# Altium integrated library Microchip Power Management Line Regulator.IntLib: 1174 symbols (part 28 of 31)
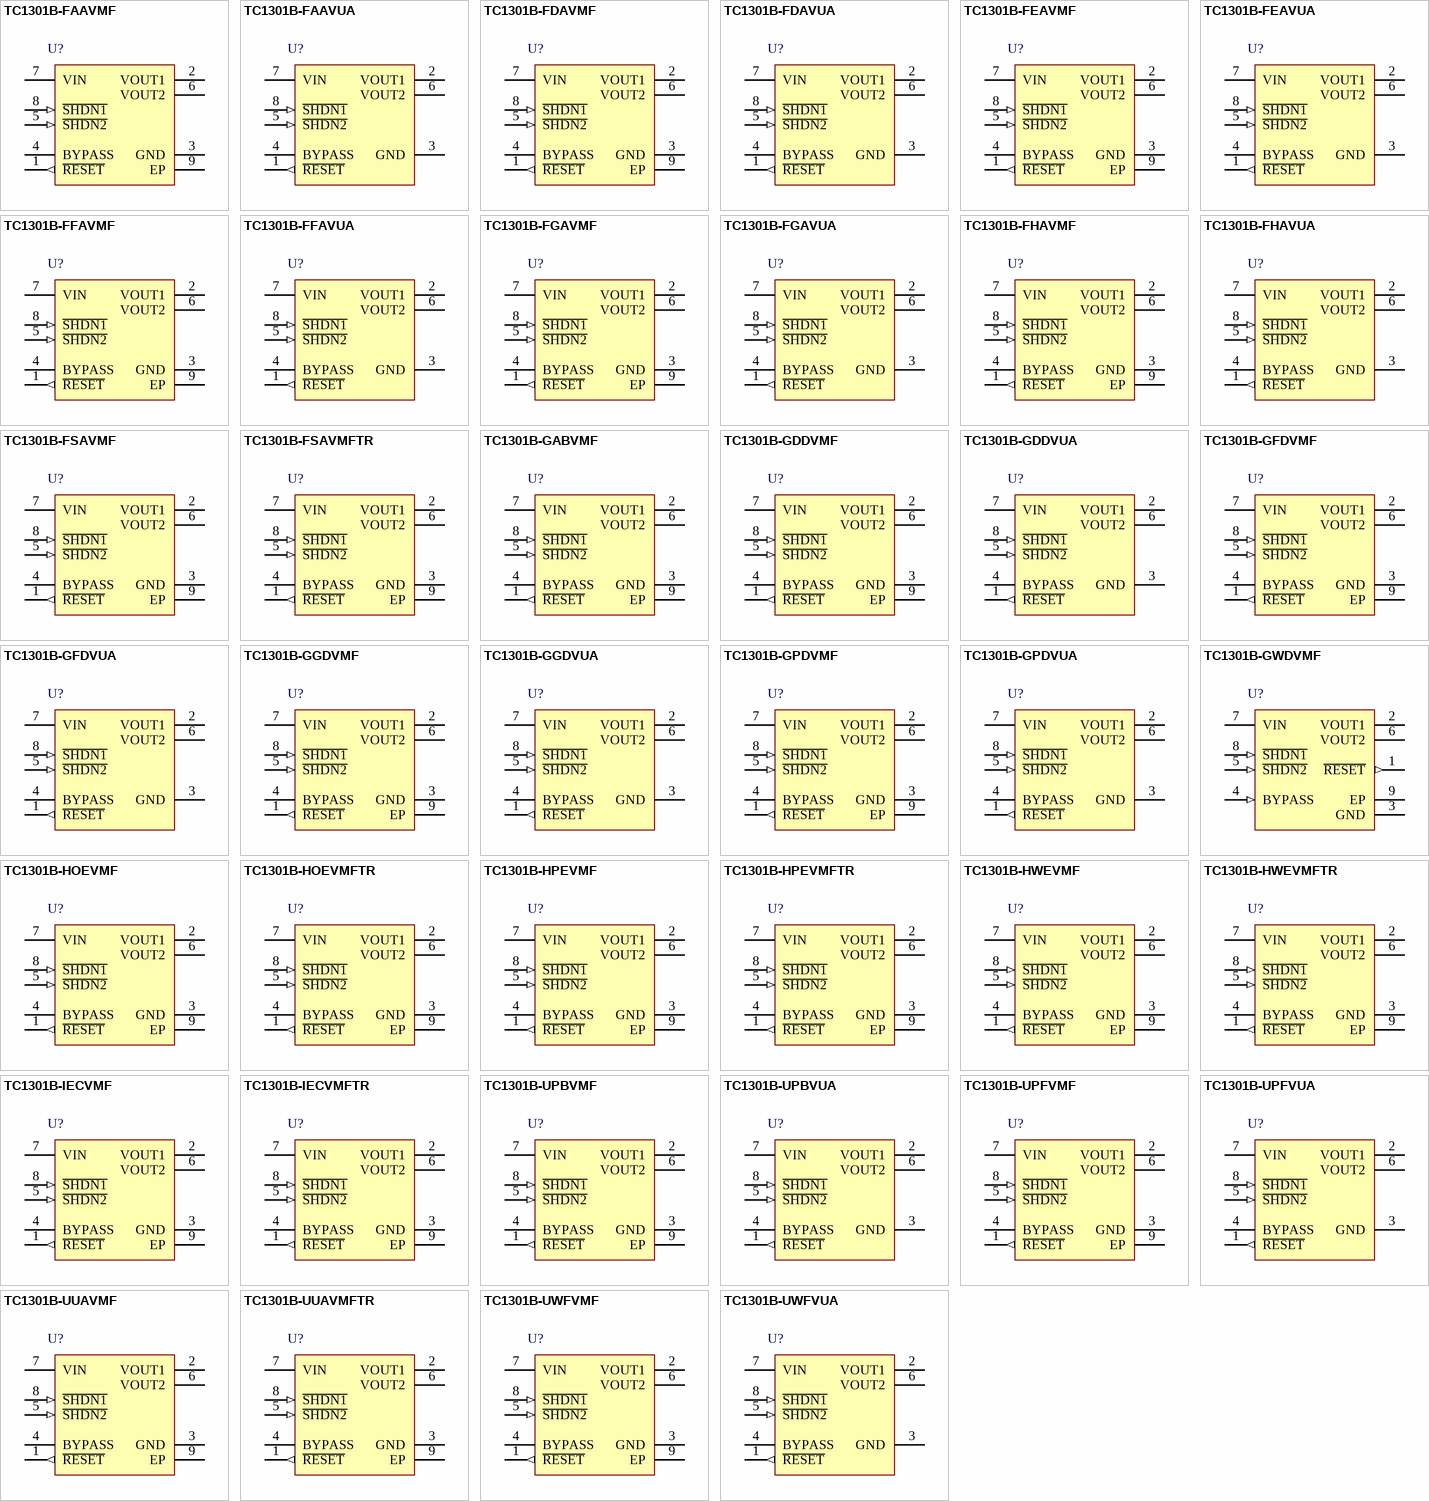
[diagram p57: symbols TC1301B-FAAVMF to TC1301B-UWFVUA]

## TC1301B-FDAVUA
designator U?
Dual LDO with Microcontroller Active-Low Reset Function, 8-Pin MSOP, Extended Temperature; Manufacturer: Microchip; PartNumber: TC1301B-FDAVUA; DatasheetVersion: revC, Feb-2008; PackageVersion: revBB, Aug-2009; PackageReference: MSOP-UA8; PackageDescription: 8-Lead Plastic Micro Small Outline Package (UA) [MSOP]; Supplier 1: Digi-Key; Supplier Part Number 1: TC1301B-FDAVUA-ND; Supplier 2: Mouser; Supplier Part Number 2: 579-TC1301B-FDAVUA; Mounting Technology: Surface Mount; Code_JEDEC: MO-187-AA; ComponentLink1Description: Manufacturer URL; ComponentLink1URL: http://www.microchip.com/; ComponentLink2Description: Datasheet; ComponentLink2URL: http://ww1.microchip.com/downloads/en/DeviceDoc/21798c.pdf; ComponentLink3Description: Package Specification; ComponentLink3URL: http://www.microchip.com/stellent/groups/techpub_sg/documents/packagingspec/en012702.pdf
footprint MSOP-UA8_N (TSOP, 8-Leads, Body 3x3mm, Pitch 0.65mm, IPC Medium Density)
footprint MSOP-UA8_L (TSOP, 8-Leads, Body 3x3mm, Pitch 0.65mm, IPC High Density)
footprint MSOP-UA8_M (TSOP, 8-Leads, Body 3x3mm, Pitch 0.65mm, IPC Low Density)
pins: 1 ~{RESET} (out), 2 VOUT1 (power), 3 GND (power), 4 BYPASS, 5 ~{SHDN2} (in), 6 VOUT2 (power), 7 VIN (power), 8 ~{SHDN1} (in)

## TC1301B-FEAVMF
designator U?
Dual LDO with Microcontroller Active-Low Reset Function, 8-Pin DFN, Extended Temperature; Manufacturer: Microchip; PartNumber: TC1301B-FEAVMF; DatasheetVersion: revC, Feb-2008; PackageVersion: revBB, Aug-2009; PackageReference: DFN-MF8; PackageDescription: 8-Lead Plastic Dual Flat, No Lead Package (MF) - 3x3x0.9mm Body [DFN]; Mounting Technology: Surface Mount; ComponentLink1Description: Manufacturer URL; ComponentLink1URL: http://www.microchip.com/; ComponentLink2Description: Datasheet; ComponentLink2URL: http://ww1.microchip.com/downloads/en/DeviceDoc/21798c.pdf; ComponentLink3Description: Package Specification; ComponentLink3URL: http://www.microchip.com/stellent/groups/techpub_sg/documents/packagingspec/en012702.pdf
footprint DFN-MF8 (SON, 8-Leads, Body 3x3mm, Pitch 0.65mm, Microchip Recommended)
pins: 1 ~{RESET} (out), 2 VOUT1 (power), 3 GND (power), 4 BYPASS, 5 ~{SHDN2} (in), 6 VOUT2 (power), 7 VIN (power), 8 ~{SHDN1} (in), 9 EP (power)

## TC1301B-FEAVUA
designator U?
Dual LDO with Microcontroller Active-Low Reset Function, 8-Pin MSOP, Extended Temperature; Manufacturer: Microchip; PartNumber: TC1301B-FEAVUA; DatasheetVersion: revC, Feb-2008; PackageVersion: revBB, Aug-2009; PackageReference: MSOP-UA8; PackageDescription: 8-Lead Plastic Micro Small Outline Package (UA) [MSOP]; Mounting Technology: Surface Mount; Code_JEDEC: MO-187-AA; ComponentLink1Description: Manufacturer URL; ComponentLink1URL: http://www.microchip.com/; ComponentLink2Description: Datasheet; ComponentLink2URL: http://ww1.microchip.com/downloads/en/DeviceDoc/21798c.pdf; ComponentLink3Description: Package Specification; ComponentLink3URL: http://www.microchip.com/stellent/groups/techpub_sg/documents/packagingspec/en012702.pdf
footprint MSOP-UA8_N (TSOP, 8-Leads, Body 3x3mm, Pitch 0.65mm, IPC Medium Density)
footprint MSOP-UA8_L (TSOP, 8-Leads, Body 3x3mm, Pitch 0.65mm, IPC High Density)
footprint MSOP-UA8_M (TSOP, 8-Leads, Body 3x3mm, Pitch 0.65mm, IPC Low Density)
pins: 1 ~{RESET} (out), 2 VOUT1 (power), 3 GND (power), 4 BYPASS, 5 ~{SHDN2} (in), 6 VOUT2 (power), 7 VIN (power), 8 ~{SHDN1} (in)

## TC1301B-FFAVMF
designator U?
Dual LDO with Microcontroller Active-Low Reset Function, 8-Pin DFN, Extended Temperature; Manufacturer: Microchip; PartNumber: TC1301B-FFAVMF; DatasheetVersion: revC, Feb-2008; PackageVersion: revBB, Aug-2009; PackageReference: DFN-MF8; PackageDescription: 8-Lead Plastic Dual Flat, No Lead Package (MF) - 3x3x0.9mm Body [DFN]; Mounting Technology: Surface Mount; ComponentLink1Description: Manufacturer URL; ComponentLink1URL: http://www.microchip.com/; ComponentLink2Description: Datasheet; ComponentLink2URL: http://ww1.microchip.com/downloads/en/DeviceDoc/21798c.pdf; ComponentLink3Description: Package Specification; ComponentLink3URL: http://www.microchip.com/stellent/groups/techpub_sg/documents/packagingspec/en012702.pdf
footprint DFN-MF8 (SON, 8-Leads, Body 3x3mm, Pitch 0.65mm, Microchip Recommended)
pins: 1 ~{RESET} (out), 2 VOUT1 (power), 3 GND (power), 4 BYPASS, 5 ~{SHDN2} (in), 6 VOUT2 (power), 7 VIN (power), 8 ~{SHDN1} (in), 9 EP (power)

## TC1301B-FFAVUA
designator U?
Dual LDO with Microcontroller Active-Low Reset Function, 8-Pin MSOP, Extended Temperature; Manufacturer: Microchip; PartNumber: TC1301B-FFAVUA; DatasheetVersion: revC, Feb-2008; PackageVersion: revBB, Aug-2009; PackageReference: MSOP-UA8; PackageDescription: 8-Lead Plastic Micro Small Outline Package (UA) [MSOP]; Supplier 1: Digi-Key; Supplier Part Number 1: TC1301B-FFAVUA-ND; Supplier 2: Mouser; Supplier Part Number 2: 579-TC1301B-FFAVUA; Mounting Technology: Surface Mount; Code_JEDEC: MO-187-AA; ComponentLink1Description: Manufacturer URL; ComponentLink1URL: http://www.microchip.com/; ComponentLink2Description: Datasheet; ComponentLink2URL: http://ww1.microchip.com/downloads/en/DeviceDoc/21798c.pdf; ComponentLink3Description: Package Specification; ComponentLink3URL: http://www.microchip.com/stellent/groups/techpub_sg/documents/packagingspec/en012702.pdf
footprint MSOP-UA8_N (TSOP, 8-Leads, Body 3x3mm, Pitch 0.65mm, IPC Medium Density)
footprint MSOP-UA8_L (TSOP, 8-Leads, Body 3x3mm, Pitch 0.65mm, IPC High Density)
footprint MSOP-UA8_M (TSOP, 8-Leads, Body 3x3mm, Pitch 0.65mm, IPC Low Density)
pins: 1 ~{RESET} (out), 2 VOUT1 (power), 3 GND (power), 4 BYPASS, 5 ~{SHDN2} (in), 6 VOUT2 (power), 7 VIN (power), 8 ~{SHDN1} (in)

## TC1301B-FGAVMF
designator U?
Dual LDO with Microcontroller Active-Low Reset Function, 8-Pin DFN, Extended Temperature; Manufacturer: Microchip; PartNumber: TC1301B-FGAVMF; DatasheetVersion: revC, Feb-2008; PackageVersion: revBB, Aug-2009; PackageReference: DFN-MF8; PackageDescription: 8-Lead Plastic Dual Flat, No Lead Package (MF) - 3x3x0.9mm Body [DFN]; Mounting Technology: Surface Mount; ComponentLink1Description: Manufacturer URL; ComponentLink1URL: http://www.microchip.com/; ComponentLink2Description: Datasheet; ComponentLink2URL: http://ww1.microchip.com/downloads/en/DeviceDoc/21798c.pdf; ComponentLink3Description: Package Specification; ComponentLink3URL: http://www.microchip.com/stellent/groups/techpub_sg/documents/packagingspec/en012702.pdf
footprint DFN-MF8 (SON, 8-Leads, Body 3x3mm, Pitch 0.65mm, Microchip Recommended)
pins: 1 ~{RESET} (out), 2 VOUT1 (power), 3 GND (power), 4 BYPASS, 5 ~{SHDN2} (in), 6 VOUT2 (power), 7 VIN (power), 8 ~{SHDN1} (in), 9 EP (power)

## TC1301B-FGAVUA
designator U?
Dual LDO with Microcontroller Active-Low Reset Function, 8-Pin MSOP, Extended Temperature; Manufacturer: Microchip; PartNumber: TC1301B-FGAVUA; DatasheetVersion: revC, Feb-2008; PackageVersion: revBB, Aug-2009; PackageReference: MSOP-UA8; PackageDescription: 8-Lead Plastic Micro Small Outline Package (UA) [MSOP]; Mounting Technology: Surface Mount; Code_JEDEC: MO-187-AA; ComponentLink1Description: Manufacturer URL; ComponentLink1URL: http://www.microchip.com/; ComponentLink2Description: Datasheet; ComponentLink2URL: http://ww1.microchip.com/downloads/en/DeviceDoc/21798c.pdf; ComponentLink3Description: Package Specification; ComponentLink3URL: http://www.microchip.com/stellent/groups/techpub_sg/documents/packagingspec/en012702.pdf
footprint MSOP-UA8_N (TSOP, 8-Leads, Body 3x3mm, Pitch 0.65mm, IPC Medium Density)
footprint MSOP-UA8_L (TSOP, 8-Leads, Body 3x3mm, Pitch 0.65mm, IPC High Density)
footprint MSOP-UA8_M (TSOP, 8-Leads, Body 3x3mm, Pitch 0.65mm, IPC Low Density)
pins: 1 ~{RESET} (out), 2 VOUT1 (power), 3 GND (power), 4 BYPASS, 5 ~{SHDN2} (in), 6 VOUT2 (power), 7 VIN (power), 8 ~{SHDN1} (in)

## TC1301B-FHAVMF
designator U?
Dual LDO with Microcontroller Active-Low Reset Function, 8-Pin DFN, Extended Temperature; Manufacturer: Microchip; PartNumber: TC1301B-FHAVMF; DatasheetVersion: revC, Feb-2008; PackageVersion: revBB, Aug-2009; PackageReference: DFN-MF8; PackageDescription: 8-Lead Plastic Dual Flat, No Lead Package (MF) - 3x3x0.9mm Body [DFN]; Supplier 1: Digi-Key; Supplier Part Number 1: TC1301B-FHAVMF-ND; Supplier 2: Mouser; Supplier Part Number 2: 579-TC1301B-FHAVMF; Mounting Technology: Surface Mount; ComponentLink1Description: Manufacturer URL; ComponentLink1URL: http://www.microchip.com/; ComponentLink2Description: Datasheet; ComponentLink2URL: http://ww1.microchip.com/downloads/en/DeviceDoc/21798c.pdf; ComponentLink3Description: Package Specification; ComponentLink3URL: http://www.microchip.com/stellent/groups/techpub_sg/documents/packagingspec/en012702.pdf
footprint DFN-MF8 (SON, 8-Leads, Body 3x3mm, Pitch 0.65mm, Microchip Recommended)
pins: 1 ~{RESET} (out), 2 VOUT1 (power), 3 GND (power), 4 BYPASS, 5 ~{SHDN2} (in), 6 VOUT2 (power), 7 VIN (power), 8 ~{SHDN1} (in), 9 EP (power)

## TC1301B-FHAVUA
designator U?
Dual LDO with Microcontroller Active-Low Reset Function, 8-Pin MSOP, Extended Temperature; Manufacturer: Microchip; PartNumber: TC1301B-FHAVUA; DatasheetVersion: revC, Feb-2008; PackageVersion: revBB, Aug-2009; PackageReference: MSOP-UA8; PackageDescription: 8-Lead Plastic Micro Small Outline Package (UA) [MSOP]; Supplier 1: Digi-Key; Supplier Part Number 1: TC1301B-FHAVUA-ND; Supplier 2: Mouser; Supplier Part Number 2: 579-TC1301B-FHAVUA; Mounting Technology: Surface Mount; Code_JEDEC: MO-187-AA; ComponentLink1Description: Manufacturer URL; ComponentLink1URL: http://www.microchip.com/; ComponentLink2Description: Datasheet; ComponentLink2URL: http://ww1.microchip.com/downloads/en/DeviceDoc/21798c.pdf; ComponentLink3Description: Package Specification; ComponentLink3URL: http://www.microchip.com/stellent/groups/techpub_sg/documents/packagingspec/en012702.pdf
footprint MSOP-UA8_N (TSOP, 8-Leads, Body 3x3mm, Pitch 0.65mm, IPC Medium Density)
footprint MSOP-UA8_L (TSOP, 8-Leads, Body 3x3mm, Pitch 0.65mm, IPC High Density)
footprint MSOP-UA8_M (TSOP, 8-Leads, Body 3x3mm, Pitch 0.65mm, IPC Low Density)
pins: 1 ~{RESET} (out), 2 VOUT1 (power), 3 GND (power), 4 BYPASS, 5 ~{SHDN2} (in), 6 VOUT2 (power), 7 VIN (power), 8 ~{SHDN1} (in)

## TC1301B-FSAVMF
designator U?
Dual LDO with Microcontroller Active-Low Reset Function, 8-Pin DFN, Extended Temperature; Manufacturer: Microchip; PartNumber: TC1301B-FSAVMF; DatasheetVersion: revC, Feb-2008; PackageVersion: revBB, Aug-2009; PackageReference: DFN-MF8; PackageDescription: 8-Lead Plastic Dual Flat, No Lead Package (MF) - 3x3x0.9mm Body [DFN]; Mounting Technology: Surface Mount; ComponentLink1Description: Manufacturer URL; ComponentLink1URL: http://www.microchip.com/; ComponentLink2Description: Datasheet; ComponentLink2URL: http://ww1.microchip.com/downloads/en/DeviceDoc/21798c.pdf; ComponentLink3Description: Package Specification; ComponentLink3URL: http://www.microchip.com/stellent/groups/techpub_sg/documents/packagingspec/en012702.pdf
footprint DFN-MF8 (SON, 8-Leads, Body 3x3mm, Pitch 0.65mm, Microchip Recommended)
pins: 1 ~{RESET} (out), 2 VOUT1 (power), 3 GND (power), 4 BYPASS, 5 ~{SHDN2} (in), 6 VOUT2 (power), 7 VIN (power), 8 ~{SHDN1} (in), 9 EP (power)

## TC1301B-FSAVMFTR
designator U?
Dual LDO with Microcontroller Active-Low Reset Function, 8-Pin DFN, Extended Temperature, Tape and Reel; Manufacturer: Microchip; PartNumber: TC1301B-FSAVMFTR; DatasheetVersion: revC, Feb-2008; PackageVersion: revBB, Aug-2009; PackageReference: DFN-MF8; PackageDescription: 8-Lead Plastic Dual Flat, No Lead Package (MF) - 3x3x0.9mm Body [DFN]; Mounting Technology: Surface Mount; ComponentLink1Description: Manufacturer URL; ComponentLink1URL: http://www.microchip.com/; ComponentLink2Description: Datasheet; ComponentLink2URL: http://ww1.microchip.com/downloads/en/DeviceDoc/21798c.pdf; ComponentLink3Description: Package Specification; ComponentLink3URL: http://www.microchip.com/stellent/groups/techpub_sg/documents/packagingspec/en012702.pdf
footprint DFN-MF8 (SON, 8-Leads, Body 3x3mm, Pitch 0.65mm, Microchip Recommended)
pins: 1 ~{RESET} (out), 2 VOUT1 (power), 3 GND (power), 4 BYPASS, 5 ~{SHDN2} (in), 6 VOUT2 (power), 7 VIN (power), 8 ~{SHDN1} (in), 9 EP (power)

## TC1301B-GABVMF
designator U?
Dual LDO with Microcontroller Active-Low Reset Function, 8-Pin DFN, Extended Temperature; Manufacturer: Microchip; PartNumber: TC1301B-GABVMF; DatasheetVersion: revC, Feb-2008; PackageVersion: revBB, Aug-2009; PackageReference: DFN-MF8; PackageDescription: 8-Lead Plastic Dual Flat, No Lead Package (MF) - 3x3x0.9mm Body [DFN]; Mounting Technology: Surface Mount; ComponentLink1Description: Manufacturer URL; ComponentLink1URL: http://www.microchip.com/; ComponentLink2Description: Datasheet; ComponentLink2URL: http://ww1.microchip.com/downloads/en/DeviceDoc/21798c.pdf; ComponentLink3Description: Package Specification; ComponentLink3URL: http://www.microchip.com/stellent/groups/techpub_sg/documents/packagingspec/en012702.pdf
footprint DFN-MF8 (SON, 8-Leads, Body 3x3mm, Pitch 0.65mm, Microchip Recommended)
pins: 1 ~{RESET} (out), 2 VOUT1 (power), 3 GND (power), 4 BYPASS, 5 ~{SHDN2} (in), 6 VOUT2 (power), 7 VIN (power), 8 ~{SHDN1} (in), 9 EP (power)

## TC1301B-GDDVMF
designator U?
Dual LDO with Microcontroller Active-Low Reset Function, 8-Pin DFN, Extended Temperature; Manufacturer: Microchip; PartNumber: TC1301B-GDDVMF; DatasheetVersion: revC, Feb-2008; PackageVersion: revBB, Aug-2009; PackageReference: DFN-MF8; PackageDescription: 8-Lead Plastic Dual Flat, No Lead Package (MF) - 3x3x0.9mm Body [DFN]; Supplier 1: Digi-Key; Supplier Part Number 1: TC1301B-GDDVMF-ND; Supplier 2: Mouser; Supplier Part Number 2: 579-TC1301B-GDDVMF; Mounting Technology: Surface Mount; ComponentLink1Description: Manufacturer URL; ComponentLink1URL: http://www.microchip.com/; ComponentLink2Description: Datasheet; ComponentLink2URL: http://ww1.microchip.com/downloads/en/DeviceDoc/21798c.pdf; ComponentLink3Description: Package Specification; ComponentLink3URL: http://www.microchip.com/stellent/groups/techpub_sg/documents/packagingspec/en012702.pdf
footprint DFN-MF8 (SON, 8-Leads, Body 3x3mm, Pitch 0.65mm, Microchip Recommended)
pins: 1 ~{RESET} (out), 2 VOUT1 (power), 3 GND (power), 4 BYPASS, 5 ~{SHDN2} (in), 6 VOUT2 (power), 7 VIN (power), 8 ~{SHDN1} (in), 9 EP (power)

## TC1301B-GDDVUA
designator U?
Dual LDO with Microcontroller Active-Low Reset Function, 8-Pin MSOP, Extended Temperature; Manufacturer: Microchip; PartNumber: TC1301B-GDDVUA; DatasheetVersion: revC, Feb-2008; PackageVersion: revBB, Aug-2009; PackageReference: MSOP-UA8; PackageDescription: 8-Lead Plastic Micro Small Outline Package (UA) [MSOP]; Supplier 1: Digi-Key; Supplier Part Number 1: TC1301B-GDDVUA-ND; Supplier 2: Mouser; Supplier Part Number 2: 579-TC1301B-GDDVUA; Mounting Technology: Surface Mount; Code_JEDEC: MO-187-AA; ComponentLink1Description: Manufacturer URL; ComponentLink1URL: http://www.microchip.com/; ComponentLink2Description: Datasheet; ComponentLink2URL: http://ww1.microchip.com/downloads/en/DeviceDoc/21798c.pdf; ComponentLink3Description: Package Specification; ComponentLink3URL: http://www.microchip.com/stellent/groups/techpub_sg/documents/packagingspec/en012702.pdf
footprint MSOP-UA8_N (TSOP, 8-Leads, Body 3x3mm, Pitch 0.65mm, IPC Medium Density)
footprint MSOP-UA8_L (TSOP, 8-Leads, Body 3x3mm, Pitch 0.65mm, IPC High Density)
footprint MSOP-UA8_M (TSOP, 8-Leads, Body 3x3mm, Pitch 0.65mm, IPC Low Density)
pins: 1 ~{RESET} (out), 2 VOUT1 (power), 3 GND (power), 4 BYPASS, 5 ~{SHDN2} (in), 6 VOUT2 (power), 7 VIN (power), 8 ~{SHDN1} (in)

## TC1301B-GFDVMF
designator U?
Dual LDO with Microcontroller Active-Low Reset Function, 8-Pin DFN, Extended Temperature; Manufacturer: Microchip; PartNumber: TC1301B-GFDVMF; DatasheetVersion: revC, Feb-2008; PackageVersion: revBB, Aug-2009; PackageReference: DFN-MF8; PackageDescription: 8-Lead Plastic Dual Flat, No Lead Package (MF) - 3x3x0.9mm Body [DFN]; Supplier 1: Digi-Key; Supplier Part Number 1: TC1301B-GFDVMF-ND; Supplier 2: Mouser; Supplier Part Number 2: 579-TC1301B-GFDVMF; Mounting Technology: Surface Mount; ComponentLink1Description: Manufacturer URL; ComponentLink1URL: http://www.microchip.com/; ComponentLink2Description: Datasheet; ComponentLink2URL: http://ww1.microchip.com/downloads/en/DeviceDoc/21798c.pdf; ComponentLink3Description: Package Specification; ComponentLink3URL: http://www.microchip.com/stellent/groups/techpub_sg/documents/packagingspec/en012702.pdf
footprint DFN-MF8 (SON, 8-Leads, Body 3x3mm, Pitch 0.65mm, Microchip Recommended)
pins: 1 ~{RESET} (out), 2 VOUT1 (power), 3 GND (power), 4 BYPASS, 5 ~{SHDN2} (in), 6 VOUT2 (power), 7 VIN (power), 8 ~{SHDN1} (in), 9 EP (power)

## TC1301B-GFDVUA
designator U?
Dual LDO with Microcontroller Active-Low Reset Function, 8-Pin MSOP, Extended Temperature; Manufacturer: Microchip; PartNumber: TC1301B-GFDVUA; DatasheetVersion: revC, Feb-2008; PackageVersion: revBB, Aug-2009; PackageReference: MSOP-UA8; PackageDescription: 8-Lead Plastic Micro Small Outline Package (UA) [MSOP]; Supplier 1: Digi-Key; Supplier Part Number 1: TC1301B-GFDVUA-ND; Supplier 2: Mouser; Supplier Part Number 2: 579-TC1301B-GFDVUA; Mounting Technology: Surface Mount; Code_JEDEC: MO-187-AA; ComponentLink1Description: Manufacturer URL; ComponentLink1URL: http://www.microchip.com/; ComponentLink2Description: Datasheet; ComponentLink2URL: http://ww1.microchip.com/downloads/en/DeviceDoc/21798c.pdf; ComponentLink3Description: Package Specification; ComponentLink3URL: http://www.microchip.com/stellent/groups/techpub_sg/documents/packagingspec/en012702.pdf
footprint MSOP-UA8_N (TSOP, 8-Leads, Body 3x3mm, Pitch 0.65mm, IPC Medium Density)
footprint MSOP-UA8_L (TSOP, 8-Leads, Body 3x3mm, Pitch 0.65mm, IPC High Density)
footprint MSOP-UA8_M (TSOP, 8-Leads, Body 3x3mm, Pitch 0.65mm, IPC Low Density)
pins: 1 ~{RESET} (out), 2 VOUT1 (power), 3 GND (power), 4 BYPASS, 5 ~{SHDN2} (in), 6 VOUT2 (power), 7 VIN (power), 8 ~{SHDN1} (in)

## TC1301B-GGDVMF
designator U?
Dual LDO with Microcontroller Active-Low Reset Function, 8-Pin DFN, Extended Temperature; Manufacturer: Microchip; PartNumber: TC1301B-GGDVMF; DatasheetVersion: revC, Feb-2008; PackageVersion: revBB, Aug-2009; PackageReference: DFN-MF8; PackageDescription: 8-Lead Plastic Dual Flat, No Lead Package (MF) - 3x3x0.9mm Body [DFN]; Mounting Technology: Surface Mount; ComponentLink1Description: Manufacturer URL; ComponentLink1URL: http://www.microchip.com/; ComponentLink2Description: Datasheet; ComponentLink2URL: http://ww1.microchip.com/downloads/en/DeviceDoc/21798c.pdf; ComponentLink3Description: Package Specification; ComponentLink3URL: http://www.microchip.com/stellent/groups/techpub_sg/documents/packagingspec/en012702.pdf
footprint DFN-MF8 (SON, 8-Leads, Body 3x3mm, Pitch 0.65mm, Microchip Recommended)
pins: 1 ~{RESET} (out), 2 VOUT1 (power), 3 GND (power), 4 BYPASS, 5 ~{SHDN2} (in), 6 VOUT2 (power), 7 VIN (power), 8 ~{SHDN1} (in), 9 EP (power)

## TC1301B-GGDVUA
designator U?
Dual LDO with Microcontroller Active-Low Reset Function, 8-Pin MSOP, Extended Temperature; Manufacturer: Microchip; PartNumber: TC1301B-GGDVUA; DatasheetVersion: revC, Feb-2008; PackageVersion: revBB, Aug-2009; PackageReference: MSOP-UA8; PackageDescription: 8-Lead Plastic Micro Small Outline Package (UA) [MSOP]; Mounting Technology: Surface Mount; Code_JEDEC: MO-187-AA; ComponentLink1Description: Manufacturer URL; ComponentLink1URL: http://www.microchip.com/; ComponentLink2Description: Datasheet; ComponentLink2URL: http://ww1.microchip.com/downloads/en/DeviceDoc/21798c.pdf; ComponentLink3Description: Package Specification; ComponentLink3URL: http://www.microchip.com/stellent/groups/techpub_sg/documents/packagingspec/en012702.pdf
footprint MSOP-UA8_N (TSOP, 8-Leads, Body 3x3mm, Pitch 0.65mm, IPC Medium Density)
footprint MSOP-UA8_L (TSOP, 8-Leads, Body 3x3mm, Pitch 0.65mm, IPC High Density)
footprint MSOP-UA8_M (TSOP, 8-Leads, Body 3x3mm, Pitch 0.65mm, IPC Low Density)
pins: 1 ~{RESET} (out), 2 VOUT1 (power), 3 GND (power), 4 BYPASS, 5 ~{SHDN2} (in), 6 VOUT2 (power), 7 VIN (power), 8 ~{SHDN1} (in)

## TC1301B-GPDVMF
designator U?
Dual LDO with Microcontroller Active-Low Reset Function, 8-Pin DFN, Extended Temperature; Manufacturer: Microchip; PartNumber: TC1301B-GPDVMF; DatasheetVersion: revC, Feb-2008; PackageVersion: revBB, Aug-2009; PackageReference: DFN-MF8; PackageDescription: 8-Lead Plastic Dual Flat, No Lead Package (MF) - 3x3x0.9mm Body [DFN]; Mounting Technology: Surface Mount; ComponentLink1Description: Manufacturer URL; ComponentLink1URL: http://www.microchip.com/; ComponentLink2Description: Datasheet; ComponentLink2URL: http://ww1.microchip.com/downloads/en/DeviceDoc/21798c.pdf; ComponentLink3Description: Package Specification; ComponentLink3URL: http://www.microchip.com/stellent/groups/techpub_sg/documents/packagingspec/en012702.pdf
footprint DFN-MF8 (SON, 8-Leads, Body 3x3mm, Pitch 0.65mm, Microchip Recommended)
pins: 1 ~{RESET} (out), 2 VOUT1 (power), 3 GND (power), 4 BYPASS, 5 ~{SHDN2} (in), 6 VOUT2 (power), 7 VIN (power), 8 ~{SHDN1} (in), 9 EP (power)

## TC1301B-GPDVUA
designator U?
Dual LDO with Microcontroller Active-Low Reset Function, 8-Pin MSOP, Extended Temperature; Manufacturer: Microchip; PartNumber: TC1301B-GPDVUA; DatasheetVersion: revC, Feb-2008; PackageVersion: revBB, Aug-2009; PackageReference: MSOP-UA8; PackageDescription: 8-Lead Plastic Micro Small Outline Package (UA) [MSOP]; Mounting Technology: Surface Mount; Code_JEDEC: MO-187-AA; ComponentLink1Description: Manufacturer URL; ComponentLink1URL: http://www.microchip.com/; ComponentLink2Description: Datasheet; ComponentLink2URL: http://ww1.microchip.com/downloads/en/DeviceDoc/21798c.pdf; ComponentLink3Description: Package Specification; ComponentLink3URL: http://www.microchip.com/stellent/groups/techpub_sg/documents/packagingspec/en012702.pdf
footprint MSOP-UA8_N (TSOP, 8-Leads, Body 3x3mm, Pitch 0.65mm, IPC Medium Density)
footprint MSOP-UA8_L (TSOP, 8-Leads, Body 3x3mm, Pitch 0.65mm, IPC High Density)
footprint MSOP-UA8_M (TSOP, 8-Leads, Body 3x3mm, Pitch 0.65mm, IPC Low Density)
pins: 1 ~{RESET} (out), 2 VOUT1 (power), 3 GND (power), 4 BYPASS, 5 ~{SHDN2} (in), 6 VOUT2 (power), 7 VIN (power), 8 ~{SHDN1} (in)

## TC1301B-GWDVMF
designator U?
Dual LDO with Microcontroller RESET Function, Output Current 300 mA, Max Input Voltage 6 V, Output Voltage 1.8, 2.8 V, -40 to 125 degC, 8-pin DFN (MF8), Tube; Manufacturer: Microchip; PartNumber: TC1301B-GWDVMF; DatasheetVersion: Rev. C; PackageVersion: C04-062C; PackageReference: DFN-MF8; PackageDescription: 8-Lead Plastic Dual Flat, No Lead Package, 3 x 3 mm Body, 0.65 mm Pitch; Mounting Technology: Surface Mount; ComponentLink1Description: Manufacturer URL; ComponentLink1URL: http://www.microchip.com; ComponentLink2Description: Datasheet; ComponentLink2URL: http://ww1.microchip.com/downloads/en/DeviceDoc/21798c.pdf; ComponentLink3Description: Package Specification; ComponentLink3URL: http://www.microchip.com/stellent/groups/techpub_sg/documents/packagingspec/en012702.pdf; ComponentLink4Description: Product URL; ComponentLink4URL: http://www.microchip.com/TC1301B
footprint MCHP-DFN-MF8_V (SON, 8-Leads, Body 3x3mm, Pitch 0.65mm, Thermal Pad 2.4x1.55mm)
pins: 1 ~{RESET} (out) "Push-pull output pin that will remain low while VDET is below the reset threshold and for 300 ms after VDET rises above the reset threshold.", 2 VOUT1 (power) "Regulated output voltage #1 capable of 300 mA.", 3 GND (power) "Circuit ground pin.", 4 BYPASS (in) "Internal reference bypass pin. A 10 nF external capacitor can be used to further reduce output noise and improve PSRR performance.", 5 ~{SHDN2} (in) "Output #2 shutdown control Input.", 6 VOUT2 (power) "Regulated output voltage #2 capable of 150 mA.", 7 VIN (power) "Unregulated input voltage pin.", 8 ~{SHDN1} (in) "Output #1 shutdown control input", 9 EP

## TC1301B-HOEVMF
designator U?
Dual LDO with Microcontroller Active-Low Reset Function, 8-Pin DFN, Extended Temperature; Manufacturer: Microchip; PartNumber: TC1301B-HOEVMF; DatasheetVersion: revC, Feb-2008; PackageVersion: revBB, Aug-2009; PackageReference: DFN-MF8; PackageDescription: 8-Lead Plastic Dual Flat, No Lead Package (MF) - 3x3x0.9mm Body [DFN]; Mounting Technology: Surface Mount; ComponentLink1Description: Manufacturer URL; ComponentLink1URL: http://www.microchip.com/; ComponentLink2Description: Datasheet; ComponentLink2URL: http://ww1.microchip.com/downloads/en/DeviceDoc/21798c.pdf; ComponentLink3Description: Package Specification; ComponentLink3URL: http://www.microchip.com/stellent/groups/techpub_sg/documents/packagingspec/en012702.pdf
footprint DFN-MF8 (SON, 8-Leads, Body 3x3mm, Pitch 0.65mm, Microchip Recommended)
pins: 1 ~{RESET} (out), 2 VOUT1 (power), 3 GND (power), 4 BYPASS, 5 ~{SHDN2} (in), 6 VOUT2 (power), 7 VIN (power), 8 ~{SHDN1} (in), 9 EP (power)

## TC1301B-HOEVMFTR
designator U?
Dual LDO with Microcontroller Active-Low Reset Function, 8-Pin DFN, Extended Temperature, Tape and Reel; Manufacturer: Microchip; PartNumber: TC1301B-HOEVMFTR; DatasheetVersion: revC, Feb-2008; PackageVersion: revBB, Aug-2009; PackageReference: DFN-MF8; PackageDescription: 8-Lead Plastic Dual Flat, No Lead Package (MF) - 3x3x0.9mm Body [DFN]; Mounting Technology: Surface Mount; ComponentLink1Description: Manufacturer URL; ComponentLink1URL: http://www.microchip.com/; ComponentLink2Description: Datasheet; ComponentLink2URL: http://ww1.microchip.com/downloads/en/DeviceDoc/21798c.pdf; ComponentLink3Description: Package Specification; ComponentLink3URL: http://www.microchip.com/stellent/groups/techpub_sg/documents/packagingspec/en012702.pdf
footprint DFN-MF8 (SON, 8-Leads, Body 3x3mm, Pitch 0.65mm, Microchip Recommended)
pins: 1 ~{RESET} (out), 2 VOUT1 (power), 3 GND (power), 4 BYPASS, 5 ~{SHDN2} (in), 6 VOUT2 (power), 7 VIN (power), 8 ~{SHDN1} (in), 9 EP (power)

## TC1301B-HPEVMF
designator U?
Dual LDO with Microcontroller Active-Low Reset Function, 8-Pin DFN, Extended Temperature; Manufacturer: Microchip; PartNumber: TC1301B-HPEVMF; DatasheetVersion: revC, Feb-2008; PackageVersion: revBB, Aug-2009; PackageReference: DFN-MF8; PackageDescription: 8-Lead Plastic Dual Flat, No Lead Package (MF) - 3x3x0.9mm Body [DFN]; Mounting Technology: Surface Mount; ComponentLink1Description: Manufacturer URL; ComponentLink1URL: http://www.microchip.com/; ComponentLink2Description: Datasheet; ComponentLink2URL: http://ww1.microchip.com/downloads/en/DeviceDoc/21798c.pdf; ComponentLink3Description: Package Specification; ComponentLink3URL: http://www.microchip.com/stellent/groups/techpub_sg/documents/packagingspec/en012702.pdf
footprint DFN-MF8 (SON, 8-Leads, Body 3x3mm, Pitch 0.65mm, Microchip Recommended)
pins: 1 ~{RESET} (out), 2 VOUT1 (power), 3 GND (power), 4 BYPASS, 5 ~{SHDN2} (in), 6 VOUT2 (power), 7 VIN (power), 8 ~{SHDN1} (in), 9 EP (power)

## TC1301B-HPEVMFTR
designator U?
Dual LDO with Microcontroller Active-Low Reset Function, 8-Pin DFN, Extended Temperature, Tape and Reel; Manufacturer: Microchip; PartNumber: TC1301B-HPEVMFTR; DatasheetVersion: revC, Feb-2008; PackageVersion: revBB, Aug-2009; PackageReference: DFN-MF8; PackageDescription: 8-Lead Plastic Dual Flat, No Lead Package (MF) - 3x3x0.9mm Body [DFN]; Mounting Technology: Surface Mount; ComponentLink1Description: Manufacturer URL; ComponentLink1URL: http://www.microchip.com/; ComponentLink2Description: Datasheet; ComponentLink2URL: http://ww1.microchip.com/downloads/en/DeviceDoc/21798c.pdf; ComponentLink3Description: Package Specification; ComponentLink3URL: http://www.microchip.com/stellent/groups/techpub_sg/documents/packagingspec/en012702.pdf
footprint DFN-MF8 (SON, 8-Leads, Body 3x3mm, Pitch 0.65mm, Microchip Recommended)
pins: 1 ~{RESET} (out), 2 VOUT1 (power), 3 GND (power), 4 BYPASS, 5 ~{SHDN2} (in), 6 VOUT2 (power), 7 VIN (power), 8 ~{SHDN1} (in), 9 EP (power)

## TC1301B-HWEVMF
designator U?
Dual LDO with Microcontroller Active-Low Reset Function, 8-Pin DFN, Extended Temperature; Manufacturer: Microchip; PartNumber: TC1301B-HWEVMF; DatasheetVersion: revC, Feb-2008; PackageVersion: revBB, Aug-2009; PackageReference: DFN-MF8; PackageDescription: 8-Lead Plastic Dual Flat, No Lead Package (MF) - 3x3x0.9mm Body [DFN]; Mounting Technology: Surface Mount; ComponentLink1Description: Manufacturer URL; ComponentLink1URL: http://www.microchip.com/; ComponentLink2Description: Datasheet; ComponentLink2URL: http://ww1.microchip.com/downloads/en/DeviceDoc/21798c.pdf; ComponentLink3Description: Package Specification; ComponentLink3URL: http://www.microchip.com/stellent/groups/techpub_sg/documents/packagingspec/en012702.pdf
footprint DFN-MF8 (SON, 8-Leads, Body 3x3mm, Pitch 0.65mm, Microchip Recommended)
pins: 1 ~{RESET} (out), 2 VOUT1 (power), 3 GND (power), 4 BYPASS, 5 ~{SHDN2} (in), 6 VOUT2 (power), 7 VIN (power), 8 ~{SHDN1} (in), 9 EP (power)

## TC1301B-HWEVMFTR
designator U?
Dual LDO with Microcontroller Active-Low Reset Function, 8-Pin DFN, Extended Temperature, Tape and Reel; Manufacturer: Microchip; PartNumber: TC1301B-HWEVMFTR; DatasheetVersion: revC, Feb-2008; PackageVersion: revBB, Aug-2009; PackageReference: DFN-MF8; PackageDescription: 8-Lead Plastic Dual Flat, No Lead Package (MF) - 3x3x0.9mm Body [DFN]; Mounting Technology: Surface Mount; ComponentLink1Description: Manufacturer URL; ComponentLink1URL: http://www.microchip.com/; ComponentLink2Description: Datasheet; ComponentLink2URL: http://ww1.microchip.com/downloads/en/DeviceDoc/21798c.pdf; ComponentLink3Description: Package Specification; ComponentLink3URL: http://www.microchip.com/stellent/groups/techpub_sg/documents/packagingspec/en012702.pdf
footprint DFN-MF8 (SON, 8-Leads, Body 3x3mm, Pitch 0.65mm, Microchip Recommended)
pins: 1 ~{RESET} (out), 2 VOUT1 (power), 3 GND (power), 4 BYPASS, 5 ~{SHDN2} (in), 6 VOUT2 (power), 7 VIN (power), 8 ~{SHDN1} (in), 9 EP (power)

## TC1301B-IECVMF
designator U?
Dual LDO with Microcontroller Active-Low Reset Function, 8-Pin DFN, Extended Temperature; Manufacturer: Microchip; PartNumber: TC1301B-IECVMF; DatasheetVersion: revC, Feb-2008; PackageVersion: revBB, Aug-2009; PackageReference: DFN-MF8; PackageDescription: 8-Lead Plastic Dual Flat, No Lead Package (MF) - 3x3x0.9mm Body [DFN]; Mounting Technology: Surface Mount; ComponentLink1Description: Manufacturer URL; ComponentLink1URL: http://www.microchip.com/; ComponentLink2Description: Datasheet; ComponentLink2URL: http://ww1.microchip.com/downloads/en/DeviceDoc/21798c.pdf; ComponentLink3Description: Package Specification; ComponentLink3URL: http://www.microchip.com/stellent/groups/techpub_sg/documents/packagingspec/en012702.pdf
footprint DFN-MF8 (SON, 8-Leads, Body 3x3mm, Pitch 0.65mm, Microchip Recommended)
pins: 1 ~{RESET} (out), 2 VOUT1 (power), 3 GND (power), 4 BYPASS, 5 ~{SHDN2} (in), 6 VOUT2 (power), 7 VIN (power), 8 ~{SHDN1} (in), 9 EP (power)

## TC1301B-IECVMFTR
designator U?
Dual LDO with Microcontroller Active-Low Reset Function, 8-Pin DFN, Extended Temperature, Tape and Reel; Manufacturer: Microchip; PartNumber: TC1301B-IECVMFTR; DatasheetVersion: revC, Feb-2008; PackageVersion: revBB, Aug-2009; PackageReference: DFN-MF8; PackageDescription: 8-Lead Plastic Dual Flat, No Lead Package (MF) - 3x3x0.9mm Body [DFN]; Mounting Technology: Surface Mount; ComponentLink1Description: Manufacturer URL; ComponentLink1URL: http://www.microchip.com/; ComponentLink2Description: Datasheet; ComponentLink2URL: http://ww1.microchip.com/downloads/en/DeviceDoc/21798c.pdf; ComponentLink3Description: Package Specification; ComponentLink3URL: http://www.microchip.com/stellent/groups/techpub_sg/documents/packagingspec/en012702.pdf
footprint DFN-MF8 (SON, 8-Leads, Body 3x3mm, Pitch 0.65mm, Microchip Recommended)
pins: 1 ~{RESET} (out), 2 VOUT1 (power), 3 GND (power), 4 BYPASS, 5 ~{SHDN2} (in), 6 VOUT2 (power), 7 VIN (power), 8 ~{SHDN1} (in), 9 EP (power)

## TC1301B-UPBVMF
designator U?
Dual LDO with Microcontroller Active-Low Reset Function, 8-Pin DFN, Extended Temperature; Manufacturer: Microchip; PartNumber: TC1301B-UPBVMF; DatasheetVersion: revC, Feb-2008; PackageVersion: revBB, Aug-2009; PackageReference: DFN-MF8; PackageDescription: 8-Lead Plastic Dual Flat, No Lead Package (MF) - 3x3x0.9mm Body [DFN]; Mounting Technology: Surface Mount; ComponentLink1Description: Manufacturer URL; ComponentLink1URL: http://www.microchip.com/; ComponentLink2Description: Datasheet; ComponentLink2URL: http://ww1.microchip.com/downloads/en/DeviceDoc/21798c.pdf; ComponentLink3Description: Package Specification; ComponentLink3URL: http://www.microchip.com/stellent/groups/techpub_sg/documents/packagingspec/en012702.pdf
footprint DFN-MF8 (SON, 8-Leads, Body 3x3mm, Pitch 0.65mm, Microchip Recommended)
pins: 1 ~{RESET} (out), 2 VOUT1 (power), 3 GND (power), 4 BYPASS, 5 ~{SHDN2} (in), 6 VOUT2 (power), 7 VIN (power), 8 ~{SHDN1} (in), 9 EP (power)

## TC1301B-UPBVUA
designator U?
Dual LDO with Microcontroller Active-Low Reset Function, 8-Pin MSOP, Extended Temperature; Manufacturer: Microchip; PartNumber: TC1301B-UPBVUA; DatasheetVersion: revC, Feb-2008; PackageVersion: revBB, Aug-2009; PackageReference: MSOP-UA8; PackageDescription: 8-Lead Plastic Micro Small Outline Package (UA) [MSOP]; Mounting Technology: Surface Mount; Code_JEDEC: MO-187-AA; ComponentLink1Description: Manufacturer URL; ComponentLink1URL: http://www.microchip.com/; ComponentLink2Description: Datasheet; ComponentLink2URL: http://ww1.microchip.com/downloads/en/DeviceDoc/21798c.pdf; ComponentLink3Description: Package Specification; ComponentLink3URL: http://www.microchip.com/stellent/groups/techpub_sg/documents/packagingspec/en012702.pdf
footprint MSOP-UA8_N (TSOP, 8-Leads, Body 3x3mm, Pitch 0.65mm, IPC Medium Density)
footprint MSOP-UA8_L (TSOP, 8-Leads, Body 3x3mm, Pitch 0.65mm, IPC High Density)
footprint MSOP-UA8_M (TSOP, 8-Leads, Body 3x3mm, Pitch 0.65mm, IPC Low Density)
pins: 1 ~{RESET} (out), 2 VOUT1 (power), 3 GND (power), 4 BYPASS, 5 ~{SHDN2} (in), 6 VOUT2 (power), 7 VIN (power), 8 ~{SHDN1} (in)

## TC1301B-UPFVMF
designator U?
Dual LDO with Microcontroller Active-Low Reset Function, 8-Pin DFN, Extended Temperature; Manufacturer: Microchip; PartNumber: TC1301B-UPFVMF; DatasheetVersion: revC, Feb-2008; PackageVersion: revBB, Aug-2009; PackageReference: DFN-MF8; PackageDescription: 8-Lead Plastic Dual Flat, No Lead Package (MF) - 3x3x0.9mm Body [DFN]; Mounting Technology: Surface Mount; ComponentLink1Description: Manufacturer URL; ComponentLink1URL: http://www.microchip.com/; ComponentLink2Description: Datasheet; ComponentLink2URL: http://ww1.microchip.com/downloads/en/DeviceDoc/21798c.pdf; ComponentLink3Description: Package Specification; ComponentLink3URL: http://www.microchip.com/stellent/groups/techpub_sg/documents/packagingspec/en012702.pdf
footprint DFN-MF8 (SON, 8-Leads, Body 3x3mm, Pitch 0.65mm, Microchip Recommended)
pins: 1 ~{RESET} (out), 2 VOUT1 (power), 3 GND (power), 4 BYPASS, 5 ~{SHDN2} (in), 6 VOUT2 (power), 7 VIN (power), 8 ~{SHDN1} (in), 9 EP (power)

## TC1301B-UPFVUA
designator U?
Dual LDO with Microcontroller Active-Low Reset Function, 8-Pin MSOP, Extended Temperature; Manufacturer: Microchip; PartNumber: TC1301B-UPFVUA; DatasheetVersion: revC, Feb-2008; PackageVersion: revBB, Aug-2009; PackageReference: MSOP-UA8; PackageDescription: 8-Lead Plastic Micro Small Outline Package (UA) [MSOP]; Mounting Technology: Surface Mount; Code_JEDEC: MO-187-AA; ComponentLink1Description: Manufacturer URL; ComponentLink1URL: http://www.microchip.com/; ComponentLink2Description: Datasheet; ComponentLink2URL: http://ww1.microchip.com/downloads/en/DeviceDoc/21798c.pdf; ComponentLink3Description: Package Specification; ComponentLink3URL: http://www.microchip.com/stellent/groups/techpub_sg/documents/packagingspec/en012702.pdf
footprint MSOP-UA8_N (TSOP, 8-Leads, Body 3x3mm, Pitch 0.65mm, IPC Medium Density)
footprint MSOP-UA8_L (TSOP, 8-Leads, Body 3x3mm, Pitch 0.65mm, IPC High Density)
footprint MSOP-UA8_M (TSOP, 8-Leads, Body 3x3mm, Pitch 0.65mm, IPC Low Density)
pins: 1 ~{RESET} (out), 2 VOUT1 (power), 3 GND (power), 4 BYPASS, 5 ~{SHDN2} (in), 6 VOUT2 (power), 7 VIN (power), 8 ~{SHDN1} (in)

## TC1301B-UUAVMF
designator U?
Dual LDO with Microcontroller Active-Low Reset Function, 8-Pin DFN, Extended Temperature; Manufacturer: Microchip; PartNumber: TC1301B-UUAVMF; DatasheetVersion: revC, Feb-2008; PackageVersion: revBB, Aug-2009; PackageReference: DFN-MF8; PackageDescription: 8-Lead Plastic Dual Flat, No Lead Package (MF) - 3x3x0.9mm Body [DFN]; Mounting Technology: Surface Mount; ComponentLink1Description: Manufacturer URL; ComponentLink1URL: http://www.microchip.com/; ComponentLink2Description: Datasheet; ComponentLink2URL: http://ww1.microchip.com/downloads/en/DeviceDoc/21798c.pdf; ComponentLink3Description: Package Specification; ComponentLink3URL: http://www.microchip.com/stellent/groups/techpub_sg/documents/packagingspec/en012702.pdf
footprint DFN-MF8 (SON, 8-Leads, Body 3x3mm, Pitch 0.65mm, Microchip Recommended)
pins: 1 ~{RESET} (out), 2 VOUT1 (power), 3 GND (power), 4 BYPASS, 5 ~{SHDN2} (in), 6 VOUT2 (power), 7 VIN (power), 8 ~{SHDN1} (in), 9 EP (power)

## TC1301B-UUAVMFTR
designator U?
Dual LDO with Microcontroller Active-Low Reset Function, 8-Pin DFN, Extended Temperature, Tape and Reel; Manufacturer: Microchip; PartNumber: TC1301B-UUAVMFTR; DatasheetVersion: revC, Feb-2008; PackageVersion: revBB, Aug-2009; PackageReference: DFN-MF8; PackageDescription: 8-Lead Plastic Dual Flat, No Lead Package (MF) - 3x3x0.9mm Body [DFN]; Mounting Technology: Surface Mount; ComponentLink1Description: Manufacturer URL; ComponentLink1URL: http://www.microchip.com/; ComponentLink2Description: Datasheet; ComponentLink2URL: http://ww1.microchip.com/downloads/en/DeviceDoc/21798c.pdf; ComponentLink3Description: Package Specification; ComponentLink3URL: http://www.microchip.com/stellent/groups/techpub_sg/documents/packagingspec/en012702.pdf
footprint DFN-MF8 (SON, 8-Leads, Body 3x3mm, Pitch 0.65mm, Microchip Recommended)
pins: 1 ~{RESET} (out), 2 VOUT1 (power), 3 GND (power), 4 BYPASS, 5 ~{SHDN2} (in), 6 VOUT2 (power), 7 VIN (power), 8 ~{SHDN1} (in), 9 EP (power)

## TC1301B-UWFVMF
designator U?
Dual LDO with Microcontroller Active-Low Reset Function, 8-Pin DFN, Extended Temperature; Manufacturer: Microchip; PartNumber: TC1301B-UWFVMF; DatasheetVersion: revC, Feb-2008; PackageVersion: revBB, Aug-2009; PackageReference: DFN-MF8; PackageDescription: 8-Lead Plastic Dual Flat, No Lead Package (MF) - 3x3x0.9mm Body [DFN]; Mounting Technology: Surface Mount; ComponentLink1Description: Manufacturer URL; ComponentLink1URL: http://www.microchip.com/; ComponentLink2Description: Datasheet; ComponentLink2URL: http://ww1.microchip.com/downloads/en/DeviceDoc/21798c.pdf; ComponentLink3Description: Package Specification; ComponentLink3URL: http://www.microchip.com/stellent/groups/techpub_sg/documents/packagingspec/en012702.pdf
footprint DFN-MF8 (SON, 8-Leads, Body 3x3mm, Pitch 0.65mm, Microchip Recommended)
pins: 1 ~{RESET} (out), 2 VOUT1 (power), 3 GND (power), 4 BYPASS, 5 ~{SHDN2} (in), 6 VOUT2 (power), 7 VIN (power), 8 ~{SHDN1} (in), 9 EP (power)

## TC1301B-UWFVUA
designator U?
Dual LDO with Microcontroller Active-Low Reset Function, 8-Pin MSOP, Extended Temperature; Manufacturer: Microchip; PartNumber: TC1301B-UWFVUA; DatasheetVersion: revC, Feb-2008; PackageVersion: revBB, Aug-2009; PackageReference: MSOP-UA8; PackageDescription: 8-Lead Plastic Micro Small Outline Package (UA) [MSOP]; Mounting Technology: Surface Mount; Code_JEDEC: MO-187-AA; ComponentLink1Description: Manufacturer URL; ComponentLink1URL: http://www.microchip.com/; ComponentLink2Description: Datasheet; ComponentLink2URL: http://ww1.microchip.com/downloads/en/DeviceDoc/21798c.pdf; ComponentLink3Description: Package Specification; ComponentLink3URL: http://www.microchip.com/stellent/groups/techpub_sg/documents/packagingspec/en012702.pdf
footprint MSOP-UA8_N (TSOP, 8-Leads, Body 3x3mm, Pitch 0.65mm, IPC Medium Density)
footprint MSOP-UA8_L (TSOP, 8-Leads, Body 3x3mm, Pitch 0.65mm, IPC High Density)
footprint MSOP-UA8_M (TSOP, 8-Leads, Body 3x3mm, Pitch 0.65mm, IPC Low Density)
pins: 1 ~{RESET} (out), 2 VOUT1 (power), 3 GND (power), 4 BYPASS, 5 ~{SHDN2} (in), 6 VOUT2 (power), 7 VIN (power), 8 ~{SHDN1} (in)

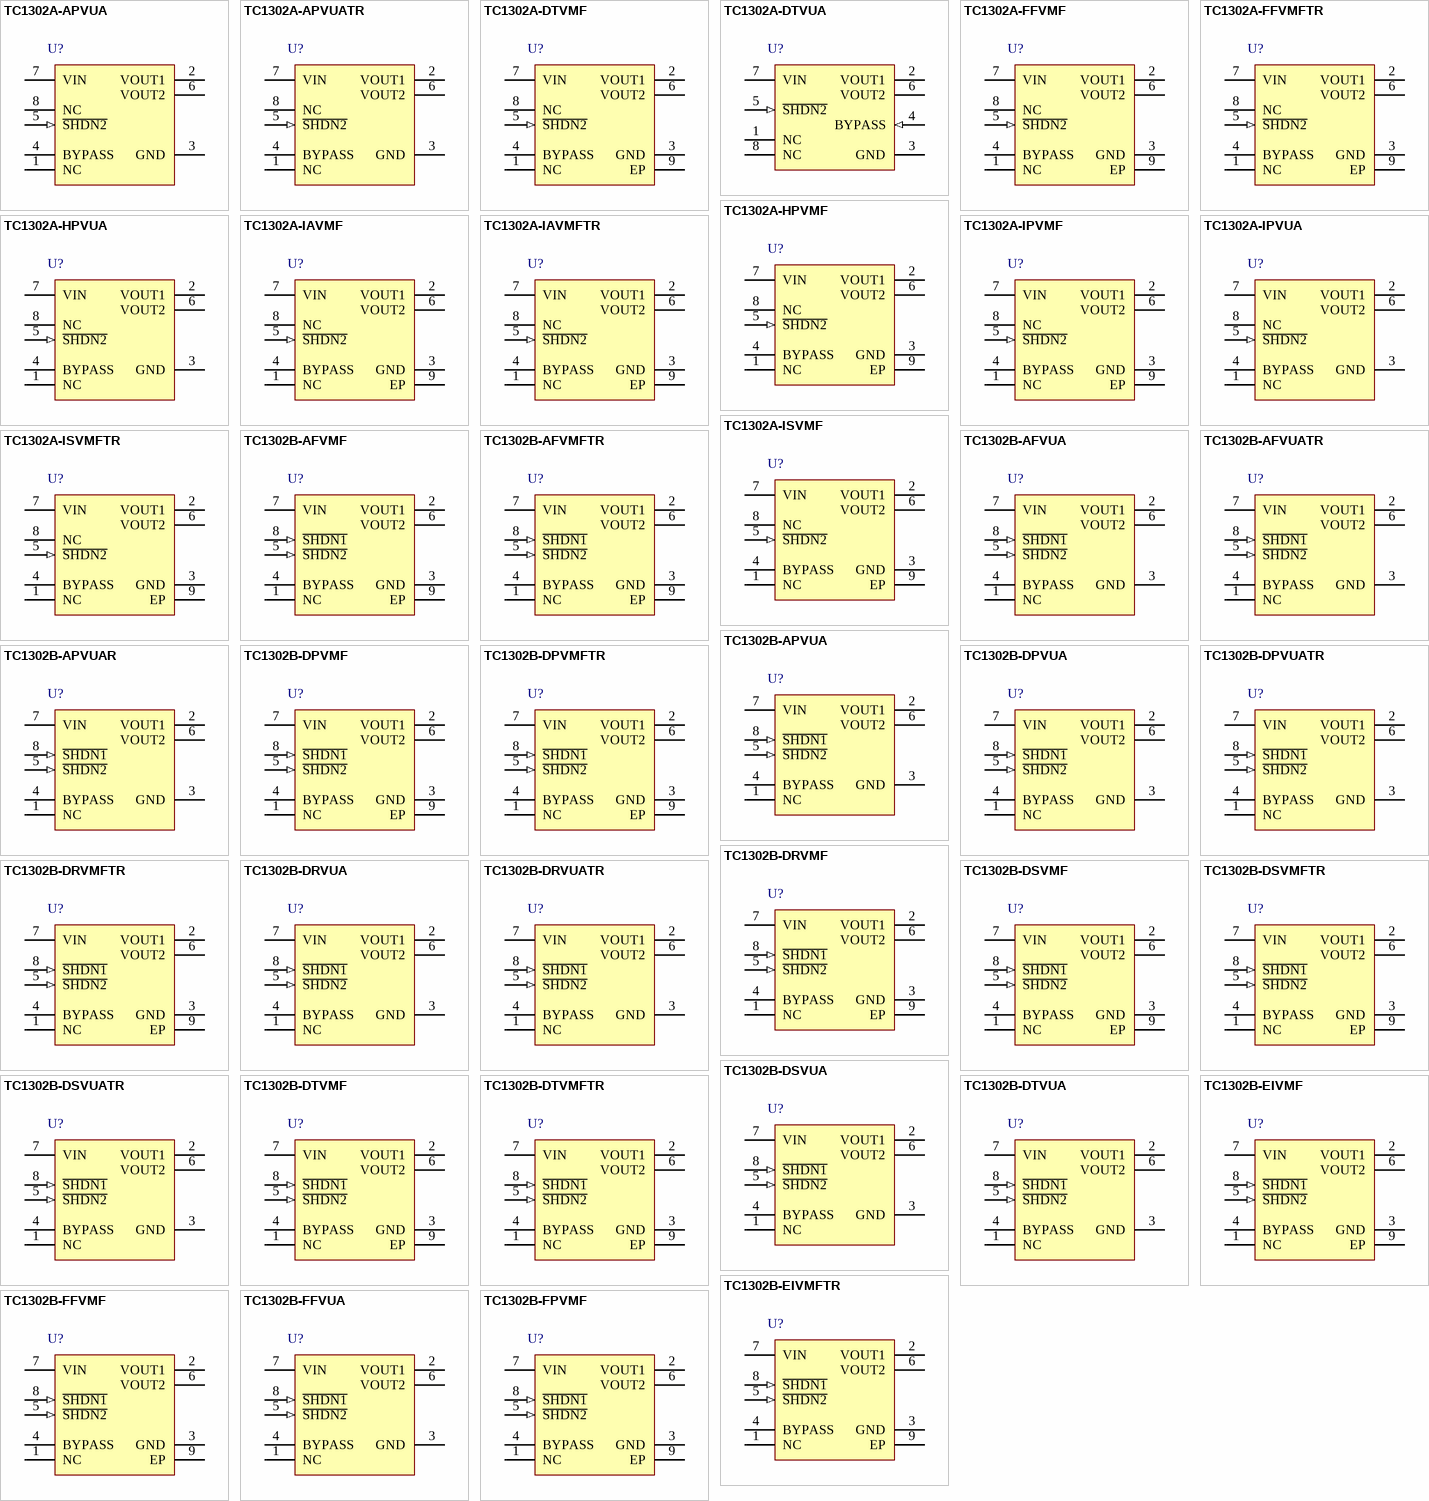
[diagram p27: symbols TC1302A-APVUA to TC1302B-FPVMF]

## TC1302A-APVUA
designator U?
Low Quiescent Current Dual Output LDO, 8-Pin MSOP, Extended Temperature; Manufacturer: Microchip; PartNumber: TC1302A-APVUA; DatasheetVersion: revB, Jan-2005; PackageVersion: revBB, Aug-2009; PackageReference: MSOP-UA8; PackageDescription: 8-Lead Plastic Micro Small Outline Package (UA) [MSOP]; Mounting Technology: Surface Mount; Code_JEDEC: MO-187-AA; ComponentLink1Description: Manufacturer URL; ComponentLink1URL: http://www.microchip.com/; ComponentLink2Description: Datasheet; ComponentLink2URL: http://ww1.microchip.com/downloads/en/DeviceDoc/21333b.pdf; ComponentLink3Description: Package Specification; ComponentLink3URL: http://www.microchip.com/stellent/groups/techpub_sg/documents/packagingspec/en012702.pdf
footprint MSOP-UA8_N (TSOP, 8-Leads, Body 3x3mm, Pitch 0.65mm, IPC Medium Density)
footprint MSOP-UA8_L (TSOP, 8-Leads, Body 3x3mm, Pitch 0.65mm, IPC High Density)
footprint MSOP-UA8_M (TSOP, 8-Leads, Body 3x3mm, Pitch 0.65mm, IPC Low Density)
pins: 1 NC, 2 VOUT1 (power), 3 GND (power), 4 BYPASS, 5 ~{SHDN2} (in), 6 VOUT2 (power), 7 VIN (power), 8 NC

## TC1302A-APVUATR
designator U?
Low Quiescent Current Dual Output LDO, 8-Pin MSOP, Extended Temperature, Tape and Reel; Manufacturer: Microchip; PartNumber: TC1302A-APVUATR; DatasheetVersion: revB, Jan-2005; PackageVersion: revBB, Aug-2009; PackageReference: MSOP-UA8; PackageDescription: 8-Lead Plastic Micro Small Outline Package (UA) [MSOP]; Mounting Technology: Surface Mount; Code_JEDEC: MO-187-AA; ComponentLink1Description: Manufacturer URL; ComponentLink1URL: http://www.microchip.com/; ComponentLink2Description: Datasheet; ComponentLink2URL: http://ww1.microchip.com/downloads/en/DeviceDoc/21333b.pdf; ComponentLink3Description: Package Specification; ComponentLink3URL: http://www.microchip.com/stellent/groups/techpub_sg/documents/packagingspec/en012702.pdf
footprint MSOP-UA8_N (TSOP, 8-Leads, Body 3x3mm, Pitch 0.65mm, IPC Medium Density)
footprint MSOP-UA8_L (TSOP, 8-Leads, Body 3x3mm, Pitch 0.65mm, IPC High Density)
footprint MSOP-UA8_M (TSOP, 8-Leads, Body 3x3mm, Pitch 0.65mm, IPC Low Density)
pins: 1 NC, 2 VOUT1 (power), 3 GND (power), 4 BYPASS, 5 ~{SHDN2} (in), 6 VOUT2 (power), 7 VIN (power), 8 NC

## TC1302A-DTVMF
designator U?
Low Quiescent Current Dual Output LDO, 8-Pin DFN, Extended Temperature; Manufacturer: Microchip; PartNumber: TC1302A-DTVMF; DatasheetVersion: revB, Jan-2005; PackageVersion: revBB, Aug-2009; PackageReference: DFN-MF8; PackageDescription: 8-Lead Plastic Dual Flat, No Lead Package (MF) - 3x3x0.9mm Body [DFN]; Supplier 1: Digi-Key; Supplier Part Number 1: TC1302A-DTVMF-ND; Supplier 2: Mouser; Supplier Part Number 2: 579-TC1302A-DTVMF; Mounting Technology: Surface Mount; ComponentLink1Description: Manufacturer URL; ComponentLink1URL: http://www.microchip.com/; ComponentLink2Description: Datasheet; ComponentLink2URL: http://ww1.microchip.com/downloads/en/DeviceDoc/21333b.pdf; ComponentLink3Description: Package Specification; ComponentLink3URL: http://www.microchip.com/stellent/groups/techpub_sg/documents/packagingspec/en012702.pdf
footprint DFN-MF8 (SON, 8-Leads, Body 3x3mm, Pitch 0.65mm, Microchip Recommended)
pins: 1 NC, 2 VOUT1 (power), 3 GND (power), 4 BYPASS, 5 ~{SHDN2} (in), 6 VOUT2 (power), 7 VIN (power), 8 NC, 9 EP (power)

## TC1302A-DTVUA
designator U?
Low Quiescent Current Dual Output LDO, Output Current 300 mA, Max Input Voltage 6 V, Output Voltage 1.8, 2.8 V, -40 to 125 degC, 8-pin MSOP (UA8), Tube; Manufacturer: Microchip; PartNumber: TC1302A-DTVUA; DatasheetVersion: Rev. B; PackageVersion: C04-111C; PackageReference: MSOP-UA8; PackageDescription: 8-Lead Plastic Micro Small Outline Package, 3 x 3 mm Body, 0.65 mm Pitch; Supplier 1: Digi-Key; Supplier Part Number 1: TC1302A-DTVUA-ND; Supplier 2: Mouser; Supplier Part Number 2: 579-TC1302A-DTVUA; Mounting Technology: Surface Mount; ComponentLink1Description: Manufacturer URL; ComponentLink1URL: http://www.microchip.com; ComponentLink2Description: Datasheet; ComponentLink2URL: http://ww1.microchip.com/downloads/en/DeviceDoc/21333b.pdf; ComponentLink3Description: Package Specification; ComponentLink3URL: http://www.microchip.com/stellent/groups/techpub_sg/documents/packagingspec/en012702.pdf; ComponentLink4Description: Product URL; ComponentLink4URL: http://www.microchip.com/TC1302A
footprint MCHP-MSOP-UA8_N (SOP, 8-Leads, Body 3x3mm, Pitch 0.65mm, IPC Medium Density)
footprint MCHP-MSOP-UA8_L (SOP, 8-Leads, Body 3x3mm, Pitch 0.65mm, IPC High Density)
footprint MCHP-MSOP-UA8_M (SOP, 8-Leads, Body 3x3mm, Pitch 0.65mm, IPC Low Density)
pins: 1 NC "No Connect", 2 VOUT1 (power) "Regulated output voltage #1 capable of 300 mA.", 3 GND (power) "Circuit ground pin.", 4 BYPASS (in) "Internal reference bypass pin. A 10 nF external capacitor can be used to further reduce output noise and improve PSRR performance.", 5 ~{SHDN2} (in) "Output #2 shutdown control Input.", 6 VOUT2 (power) "Regulated output voltage #2 capable of 150 mA.", 7 VIN (power) "Unregulated input voltage pin.", 8 NC "No Connect"

## TC1302A-FFVMF
designator U?
Low Quiescent Current Dual Output LDO, 8-Pin DFN, Extended Temperature; Manufacturer: Microchip; PartNumber: TC1302A-FFVMF; DatasheetVersion: revB, Jan-2005; PackageVersion: revBB, Aug-2009; PackageReference: DFN-MF8; PackageDescription: 8-Lead Plastic Dual Flat, No Lead Package (MF) - 3x3x0.9mm Body [DFN]; Mounting Technology: Surface Mount; ComponentLink1Description: Manufacturer URL; ComponentLink1URL: http://www.microchip.com/; ComponentLink2Description: Datasheet; ComponentLink2URL: http://ww1.microchip.com/downloads/en/DeviceDoc/21333b.pdf; ComponentLink3Description: Package Specification; ComponentLink3URL: http://www.microchip.com/stellent/groups/techpub_sg/documents/packagingspec/en012702.pdf
footprint DFN-MF8 (SON, 8-Leads, Body 3x3mm, Pitch 0.65mm, Microchip Recommended)
pins: 1 NC, 2 VOUT1 (power), 3 GND (power), 4 BYPASS, 5 ~{SHDN2} (in), 6 VOUT2 (power), 7 VIN (power), 8 NC, 9 EP (power)

## TC1302A-FFVMFTR
designator U?
Low Quiescent Current Dual Output LDO, 8-Pin DFN, Extended Temperature, Tape and Reel; Manufacturer: Microchip; PartNumber: TC1302A-FFVMFTR; DatasheetVersion: revB, Jan-2005; PackageVersion: revBB, Aug-2009; PackageReference: DFN-MF8; PackageDescription: 8-Lead Plastic Dual Flat, No Lead Package (MF) - 3x3x0.9mm Body [DFN]; Mounting Technology: Surface Mount; ComponentLink1Description: Manufacturer URL; ComponentLink1URL: http://www.microchip.com/; ComponentLink2Description: Datasheet; ComponentLink2URL: http://ww1.microchip.com/downloads/en/DeviceDoc/21333b.pdf; ComponentLink3Description: Package Specification; ComponentLink3URL: http://www.microchip.com/stellent/groups/techpub_sg/documents/packagingspec/en012702.pdf
footprint DFN-MF8 (SON, 8-Leads, Body 3x3mm, Pitch 0.65mm, Microchip Recommended)
pins: 1 NC, 2 VOUT1 (power), 3 GND (power), 4 BYPASS, 5 ~{SHDN2} (in), 6 VOUT2 (power), 7 VIN (power), 8 NC, 9 EP (power)

## TC1302A-HPVMF
designator U?
Low Quiescent Current Dual Output LDO, 8-Pin DFN, Extended Temperature; Manufacturer: Microchip; PartNumber: TC1302A-HPVMF; DatasheetVersion: revB, Jan-2005; PackageVersion: revBB, Aug-2009; PackageReference: DFN-MF8; PackageDescription: 8-Lead Plastic Dual Flat, No Lead Package (MF) - 3x3x0.9mm Body [DFN]; Mounting Technology: Surface Mount; ComponentLink1Description: Manufacturer URL; ComponentLink1URL: http://www.microchip.com/; ComponentLink2Description: Datasheet; ComponentLink2URL: http://ww1.microchip.com/downloads/en/DeviceDoc/21333b.pdf; ComponentLink3Description: Package Specification; ComponentLink3URL: http://www.microchip.com/stellent/groups/techpub_sg/documents/packagingspec/en012702.pdf
footprint DFN-MF8 (SON, 8-Leads, Body 3x3mm, Pitch 0.65mm, Microchip Recommended)
pins: 1 NC, 2 VOUT1 (power), 3 GND (power), 4 BYPASS, 5 ~{SHDN2} (in), 6 VOUT2 (power), 7 VIN (power), 8 NC, 9 EP (power)

## TC1302A-HPVUA
designator U?
Low Quiescent Current Dual Output LDO, 8-Pin MSOP, Extended Temperature; Manufacturer: Microchip; PartNumber: TC1302A-HPVUA; DatasheetVersion: revB, Jan-2005; PackageVersion: revBB, Aug-2009; PackageReference: MSOP-UA8; PackageDescription: 8-Lead Plastic Micro Small Outline Package (UA) [MSOP]; Mounting Technology: Surface Mount; Code_JEDEC: MO-187-AA; ComponentLink1Description: Manufacturer URL; ComponentLink1URL: http://www.microchip.com/; ComponentLink2Description: Datasheet; ComponentLink2URL: http://ww1.microchip.com/downloads/en/DeviceDoc/21333b.pdf; ComponentLink3Description: Package Specification; ComponentLink3URL: http://www.microchip.com/stellent/groups/techpub_sg/documents/packagingspec/en012702.pdf
footprint MSOP-UA8_N (TSOP, 8-Leads, Body 3x3mm, Pitch 0.65mm, IPC Medium Density)
footprint MSOP-UA8_L (TSOP, 8-Leads, Body 3x3mm, Pitch 0.65mm, IPC High Density)
footprint MSOP-UA8_M (TSOP, 8-Leads, Body 3x3mm, Pitch 0.65mm, IPC Low Density)
pins: 1 NC, 2 VOUT1 (power), 3 GND (power), 4 BYPASS, 5 ~{SHDN2} (in), 6 VOUT2 (power), 7 VIN (power), 8 NC